# EAGLE library part SKY13351-378LF (library skyworks)
RF SWITCH SPDT 20 MHz-6.0 GHz GaAs
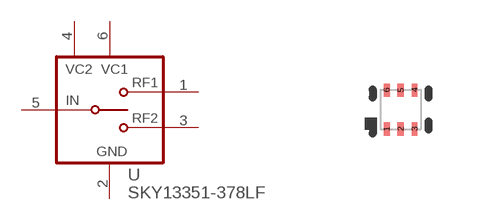
[diagram p2: symbol with the pads of QFN6-LF; footprint QFN6-LF]

Designator prefix U; gates G$1=SKY13351-378LF_CTRL G$2=SKY13351-378LF_SPDT

## SKY13351-378LF  [QFN6-LF]
1  G$2:RF1
2  G$1:GND  pwr
3  G$2:RF2
4  G$1:VC2  in
5  G$2:IN
6  G$1:VC1  in

## Footprint QFN6-LF (pad centres in mm)
QFN 6-LF body 1x1mm, pitch 0.35mm
smd 0.15 x 0.33: 1 -0.35,-0.485; 2 0,-0.485; 3 0.35,-0.485; 4 0.35,0.485; 5 0,0.485; 6 -0.35,0.485